# EAGLE library part DRV_PIEZO_PAM8904 (library !GPLIB_ACTIVE)
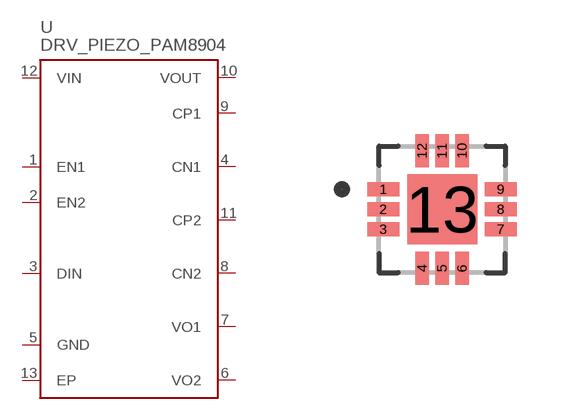
[diagram p133: symbol with the pads of QFN50P300X300X65-13N; footprint QFN50P300X300X65-13N]

Designator prefix U

## DRV_PIEZO_PAM8904_PAM8904JPR  [QFN50P300X300X65-13N]
1  EN1
2  EN2
3  DIN  in
4  CN1
5  GND  pwr
6  VO2
7  VO1
8  CN2
9  CP1
10  VOUT  pwr
11  CP2
12  VIN  pwr
13  EP  pwr

## Footprint QFN50P300X300X65-13N (pad centres in mm)
U-QFN3030-12
smd 0.83 x 0.35: 1 -1.47,0.5; 2 -1.47,0; 3 -1.47,-0.5; 7 1.47,-0.5; 8 1.47,0; 9 1.47,0.5
smd 0.35 x 0.83: 4 -0.5,-1.47; 5 0,-1.47; 6 0.5,-1.47; 10 0.5,1.47; 11 0,1.47; 12 -0.5,1.47
smd 1.75 x 1.75: 13 0,0